# Altium schematic symbol library 1_P1.SCHLIB: 10 symbols
Pins are listed as number, name and electrical type; pins without a type are passive.

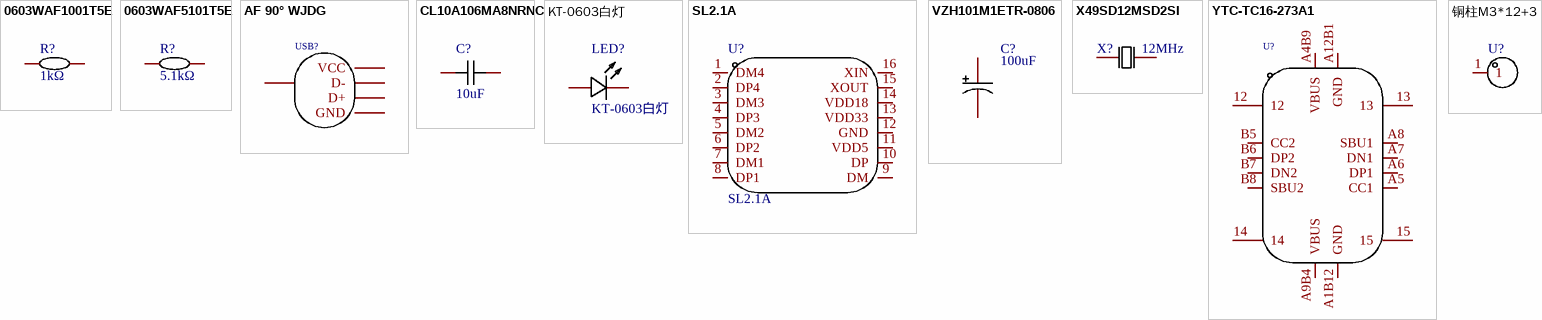
[diagram p0: symbols 0603WAF1001T5E to 铜柱M3*12+3]

## 0603WAF1001T5E
designator R?, comment 1kΩ
电阻类型:厚膜电阻;阻值:1kΩ;精度:±1%;功率:100mW;; Manufacturer: UNI-ROYAL(厚声); Symbol: 0603WAF1001T5E; Add into BOM: yes; Tolerance: ±1%; Power(Watts): 100mW; Temperature Coefficient: ±100ppm/℃; Overload Voltage (Max): 75V; Device: 0603WAF1001T5E; LCSC Part Name: 1kΩ ±1% 100mW; Supplier Part: C21190; Manufacturer Part: 0603WAF1001T5E; Supplier Footprint: 0603; JLCPCB Part Class: 基础库; Datasheet: https://atta.szlcsc.com/upload/public/pdf/source/20200306/C422600_1E6D84923E4A46A82E41ADD87F860B5C.pdf; Supplier: LCSC; Convert to PCB: yes; Type: 厚膜电阻; Value: 1kΩ; Operating Temperature Range: -55℃~+155℃; Name: 1kΩ
footprint R0603
3D model R0603
footprint R0603
pins: 1, 2

## 0603WAF5101T5E
designator R?, comment 5.1kΩ
电阻类型:厚膜电阻;阻值:5.1kΩ;精度:±1%;功率:100mW;温度系数:±100ppm/℃;最大工作电压:75V;工作温度范围:-55℃~+155℃;; Manufacturer: UNI-ROYAL(厚声); Symbol: 0603WAF5101T5E; Add into BOM: yes; Tolerance: ±1%; Power(Watts): 100mW; Overload Voltage (Max): 75V; Device: 0603WAF5101T5E; LCSC Part Name: 5.1kΩ ±1% 100mW; Supplier Part: C23186; Manufacturer Part: 0603WAF5101T5E; Supplier Footprint: 0603; JLCPCB Part Class: 基础库; Datasheet: https://atta.szlcsc.com/upload/public/pdf/source/20200306/C422600_1E6D84923E4A46A82E41ADD87F860B5C.pdf; Supplier: LCSC; Convert to PCB: yes; Type: 厚膜电阻; Value: 5.1kΩ; Temperature Coefficient: ±100ppm/℃; Operating Temperature Range: -55℃~+155℃; Name: 5.1kΩ
footprint R0603
3D model R0603
footprint R0603
pins: 1, 2

## AF 90° WJDG
designator USB?  (value not drawn)
连接器类型:Type-A;标准:USB 2.0;公母:母座;触点数量:4;端口数量:1;安装方式:弯插;额定电流 - 电源:1.5A;工作温度范围:-25℃~+85℃;; Manufacturer: SHOU HAN(首韩); Add into BOM: yes; Connector Type: Type-A; Gender: 母座; Number of Contacts: 4; Number of Ports: 1; Current Rating - Power (Max): 1.5A; Name: AF 90° WJDG; Symbol: AF 90° WJDG; Device: AF 90° WJDG; LCSC Part Name: Type-A 母座 弯插 白胶 卷口有后盖; Supplier Part: C456018; Manufacturer Part: AF 90° WJDG; Supplier Footprint: 插件; JLCPCB Part Class: 扩展库; Supplier: LCSC; Convert to PCB: yes; Standard: USB 2.0; Mounting Style: 弯插; Operating Temperature Range: -25℃~+85℃
footprint USB-A-TH_AF-WJDG
3D model USB-A-TH_4P-L14.5-W14.0-H7.6-S2.71
footprint USB-A-TH_AF-WJDG
pins: 1 VCC, 2 D-, 3 D+, 4 GND, 5 SHLD

## CL10A106MA8NRNC
designator C?, comment 10uF
容值:10uF;精度:±20%;额定电压:25V;材质(温度系数):X5R;; Manufacturer: SAMSUNG(三星); Symbol: CL10A106MA8NRNC; Add into BOM: yes; Tolerance: ±20%; Voltage Rated: 25V; Temperature Coefficient: X5R; Device: CL10A106MA8NRNC; LCSC Part Name: 10uF ±20% 25V; Supplier Part: C96446; Manufacturer Part: CL10A106MA8NRNC; Supplier Footprint: 0603; JLCPCB Part Class: 基础库; Datasheet: https://atta.szlcsc.com/upload/public/pdf/source/20170325/1490427913016.pdf; Supplier: LCSC; Convert to PCB: yes; Value: 10uF; Name: 10uF
footprint C0603
3D model C0603_L1.6-W0.8-H0.8
footprint C0603
pins: 1, 2

## KT-0603白灯
designator LED?
发光颜色:白灯;; Manufacturer: KENTO; Symbol: 0603White light_C2290; Add into BOM: yes; Emitted Color: 白灯; Device: KT-0603白灯; LCSC Part Name: 白灯; Supplier Part: C2290; Manufacturer Part: KT-0603白灯; Supplier Footprint: 0603; JLCPCB Part Class: 基础库; Datasheet: https://atta.szlcsc.com/upload/public/pdf/source/20221101/4C23D5C85BA051E44A00B833D0A41468.pdf; Supplier: LCSC; Convert to PCB: yes; Name: KT-0603白灯
footprint LED0603-R-RD_WHITE
3D model LED0603-R-RD_WHITE
footprint LED0603-R-RD_WHITE
pins: 1 A, 2 K

## SL2.1A
designator U?
应用功能:集线器;接口协议:-;; Manufacturer: CoreChips(和芯润德); Add into BOM: yes; Applications Function: 集线器; Symbol: SL2.1A; Device: SL2.1A; LCSC Part Name: SL2.1A USB2.0 HUB 控制器集成电路; Supplier Part: C192893; Manufacturer Part: SL2.1A; Supplier Footprint: SOP-16; JLCPCB Part Class: 扩展库; Datasheet: https://atta.szlcsc.com/upload/public/pdf/source/20180522/C192893_624110D24898D57AAC785E3DF98EA862.pdf; Supplier: LCSC; Convert to PCB: yes; Protocol: -; Name: SL2.1A
footprint SOP-16_L10.0-W3.9-P1.27-LS6.0-BL
3D model SOP-16_L9.9-W3.9-H1.5-LS6.0-P1.27
footprint SOP-16_L10.0-W3.9-P1.27-LS6.0-BL
pins: 1 DM4, 2 DP4, 3 DM3, 4 DP3, 5 DM2, 6 DP2, 7 DM1, 8 DP1, 9 DM, 10 DP, 11 VDD5, 12 GND, 13 VDD33, 14 VDD18, 15 XOUT, 16 XIN

## VZH101M1ETR-0806
designator C?, comment 100uF
容值:100uF;精度:±20%;额定电压:25V;纹波电流:-;等效串联电阻:-;; Manufacturer: lelon(立隆); Symbol: VZH101M1E0806-TRO; Device: VZH101M1ETR-0806; Add into BOM: yes; Tolerance: ±20%; Rated Voltage: 25V; φD: 8mm; L: 6.5mm; Lifetime @ Temp: 5000hrs@105℃; LCSC Part Name: 100uF ±20% 25V; Supplier Part: C249834; Manufacturer Part: VZH101M1ETR-0806; Supplier Footprint: SMD,D8xL6.5mm; JLCPCB Part Class: 扩展库; Datasheet: https://atta.szlcsc.com/upload/public/pdf/source/20181114/C249834_B81E92EBF737ED9019D9F6C5277923E5.pdf; Supplier: LCSC; Convert to PCB: yes; Value: 100uF; Ripple Current: -; Equivalent Series Resistance(ESR): -; Operating Temperature: -45℃~+105℃; Name: 100uF
footprint CAP-SMD_BD8.0-L8.3-W8.3-LS9.0-FD
3D model CAP-SMD_BD8.0-L8.3-W8.3-LS9.0-FD
footprint CAP-SMD_BD8.0-L8.3-W8.3-LS9.0-FD
pins: 1, 2

## X49SD12MSD2SI
designator X?, comment 12MHz
频率:12MHz;频率公差:±20ppm;负载电容:20pF;; Manufacturer: YXC(扬兴晶振); Symbol: X49SD12MSD2SI; Add into BOM: yes; Crystal Type: 49S晶振; Frequency Tolerance: ±20ppm; Frequency Stability: ±30ppm; Load Capacitance: 20pF; Device: X49SD12MSD2SI; LCSC Part Name: 12MHz ±20ppm 20pF HC-49US; Supplier Part: C114441; Manufacturer Part: X49SD12MSD2SI; Supplier Footprint: HC-49S; JLCPCB Part Class: 扩展库; Datasheet: https://atta.szlcsc.com/upload/public/pdf/source/20210903/A997D130AE99CBB55D9024F9BE6DA174.pdf; Supplier: LCSC; Convert to PCB: yes; Value: 12MHz; Operating Temperature: -40℃~+85℃; Name: 12MHz
footprint HC-49US_L11.5-W4.5-P4.88
3D model HC-49US_L11.0-W4.5-H3.5-P4.88
footprint HC-49US_L11.5-W4.5-P4.88
pins: 1 OSC1, 2 OSC2

## YTC-TC16-273A1
designator U?  (value not drawn)
连接器类型:Type-C;公母:母座;触点数量:16;; Manufacturer: YIYUAN(怡远); Add into BOM: yes; Connector Type: Type-C; Gender: 母座; Number of Contacts: 16; NUMBER: A12B1; Name: YTC-TC16-273A1; Symbol: YTC-TC16-273A1; Device: YTC-TC16-273A1; LCSC Part Name: Type-C 母座 16 板上 SMT L=7.3 全贴; Supplier Part: C5260486; Manufacturer Part: YTC-TC16-273A1; Supplier Footprint: SMD; JLCPCB Part Class: 扩展库; Datasheet: https://atta.szlcsc.com/upload/public/pdf/source/20221115/1C643958E5C7CDCF6F0D7C93477BAFEB.pdf; Supplier: LCSC; Convert to PCB: yes; link: https://atta.szlcsc.com/upload/public/pdf/source/20221115/1C643958E5C7CDCF6F0D7C93477BAFEB.pdf
footprint TYPE-C-SMD_YIYUAN_YTC-TC16-273A1
3D model TYPE-C-SMD_YIYUAN_YTC-TC16-273A1
footprint TYPE-C-SMD_YIYUAN_YTC-TC16-273A1
pins: 12, 13, 14, 15, A1B12 GND, A4B9 VBUS, A5 CC1, A6 DP1, A7 DN1, A8 SBU1, A9B4 VBUS, A12B1 GND, B5 CC2, B6 DP2, B7 DN2, B8 SBU2

## 铜柱M3*12+3
designator U?  (value not drawn)
Manufacturer: 国产; Add into BOM: yes; Name: 铜柱M3*12+3; Symbol: 铜柱M3*12+3; Device: 铜柱M3*12+3; LCSC Part Name: 铜柱M3*12+3 不环保; Supplier Part: C110574; Manufacturer Part: 铜柱M3*12+3; Supplier Footprint: -; JLCPCB Part Class: 扩展库; Datasheet: https://atta.szlcsc.com/upload/public/pdf/source/20180629/C110574_2856CC14D9E3E7E7305ABAA766172BFE.pdf; Supplier: LCSC; Convert to PCB: yes
footprint TH_BD4.7-D3.0
3D model TH_BD4.7-D3.0
footprint TH_BD4.7-D3.0
pins: 1